# Altium footprint library LINX_CONSMA020.062-G.PcbLib: 1 footprints
Each footprint in its own frame and in the unit in brackets; x right, y up, seen from the top. Pads: shape width x height; smd on the part's side, far side on the other; paste and mask are expansions set on the pad; w line width, h text height; cw(c..) or ccw(c..) is an arc to the next point about the centre after c.
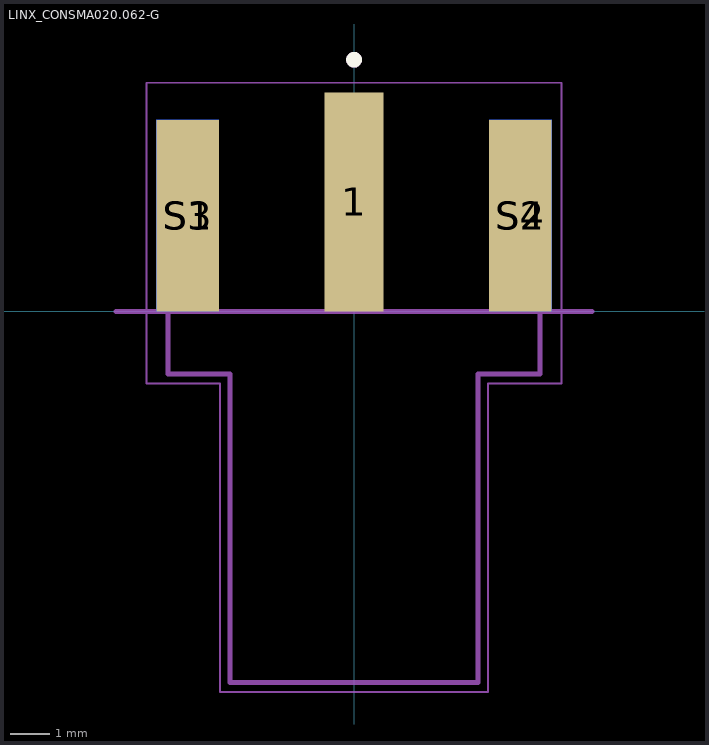
[diagram p0: the footprint, top view; thin cyan lines are the x and y axes]

## LINX_CONSMA020.062-G [mm]
pads (5):
  rect 1.5x5.6 smd: 1(0,2.8)
  rect 1.6x4.9 smd: S1(-4.26,2.45) S2(4.26,2.45)
  rect 1.6x4.9 smd far side: S3(-4.26,2.45) S4(4.26,2.45)
Top Overlay:
  circle w0.2: c0,6.44 r0.1
Mechanical 13:
  circle w0.2: c0,6.44 r0.1
  lines w0.05: -5.31,-1.85 -5.31,5.85 5.31,5.85 5.31,-1.85 3.425,-1.85 3.425,-9.75 -3.425,-9.75 -3.425,-1.85 -5.31,-1.85
  lines w0.127: -6.09,0 -4.76,0 ; 6.09,0 4.76,0 ; -4.76,0 -4.76,-1.6 -3.175,-1.6 -3.175,-9.5 3.175,-9.5 3.175,-1.6 4.76,-1.6 4.76,0 ; -4.76,0 -3.76,0 ; -4.76,0 -4.76,4.7 -3.76,4.7 -3.76,0 ; -3.76,0 -0.39,0 ; -0.39,0 0.39,0 ; -0.39,0 -0.39,4.7 0.39,4.7 0.39,0 ; 0.39,0 3.76,0 ; 3.76,0 4.76,0 ; 3.76,0 3.76,4.7 4.76,4.7 4.76,0
  text "PCB Edge" at 5,-0.97 h0.81
Mechanical 15:
  lines w0.05: -5.31,-1.85 -5.31,5.85 5.31,5.85 5.31,-1.85 3.425,-1.85 3.425,-9.75 -3.425,-9.75 -3.425,-1.85 -5.31,-1.85
3D body "step_temp.STEP": height 4.35, standoff -3.57, extent -4.76,-9.5 4.76,4.7